# EAGLE library part MAX4373 (library parts)
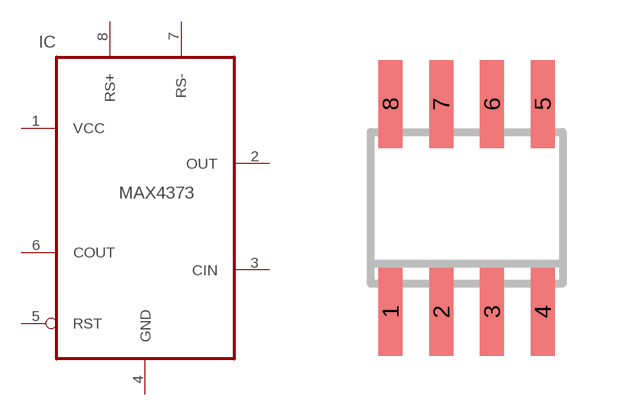
[diagram p1: symbol with the pads of SO-8; footprint SO-8]

Designator prefix IC

## MAX4373  [SO-8]
1  VCC  sup
2  OUT  out
3  CIN  in
4  GND  sup
5  RST  in
6  COUT  out
7  RS-
8  RS+

## Footprint SO-8 (pad centres in mm)
smd 0.6 x 2.2: 1 -1.905,-2.6; 2 -0.635,-2.6; 3 0.635,-2.6; 4 1.905,-2.6; 5 1.905,2.6; 6 0.635,2.6; 7 -0.635,2.6; 8 -1.905,2.6